# Altium footprint library LED_3MM.PcbLib: 3 footprints
Each footprint in its own frame and in the unit in brackets; x right, y up, seen from the top. Pads: shape width x height; smd on the part's side, far side on the other; paste and mask are expansions set on the pad; w line width, h text height; cw(c..) or ccw(c..) is an arc to the next point about the centre after c.
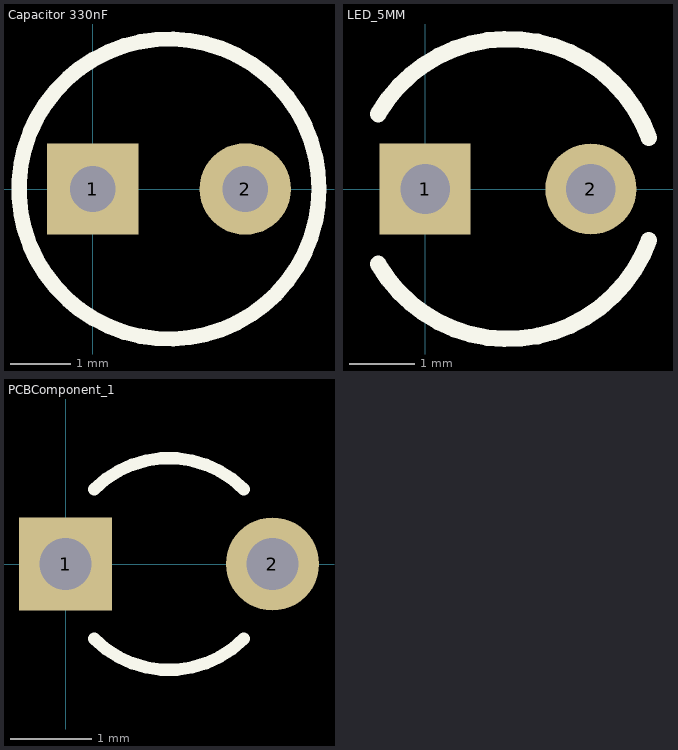
[diagram p0: the footprints below, top view; thin cyan lines are the x and y axes]

## Capacitor 330nF [mil]
pads (2):
  rect 60x60 hole 30: 1(0,0)
  round 60 hole 30: 2(100,0)
Top Overlay:
  circle w10: c50,0 r98.43

## LED_5MM [mil]
pads (2):
  rect 55x55 hole 30: 1(0,0)
  round 55 hole 30: 2(100,0)
Top Overlay:
  lines w10: -28.42,-45.28 ccw(c50,0) 135.09,-30.97 ; -28.42,45.28 cw(c50,0) 135.09,30.97

## PCBComponent_1 [mil]
pads (2):
  rect 45x45 hole 25: 1(0,0)
  round 45 hole 25: 2(100,0)
Top Overlay:
  lines w6: 13.81,-36.19 ccw(c50,0) 86.19,-36.19 ; 13.81,36.19 cw(c50,0) 86.19,36.19